# Altium schematic symbol library H2H.SchLib: 30 symbols
Pins are listed as number, name and electrical type; pins without a type are passive.

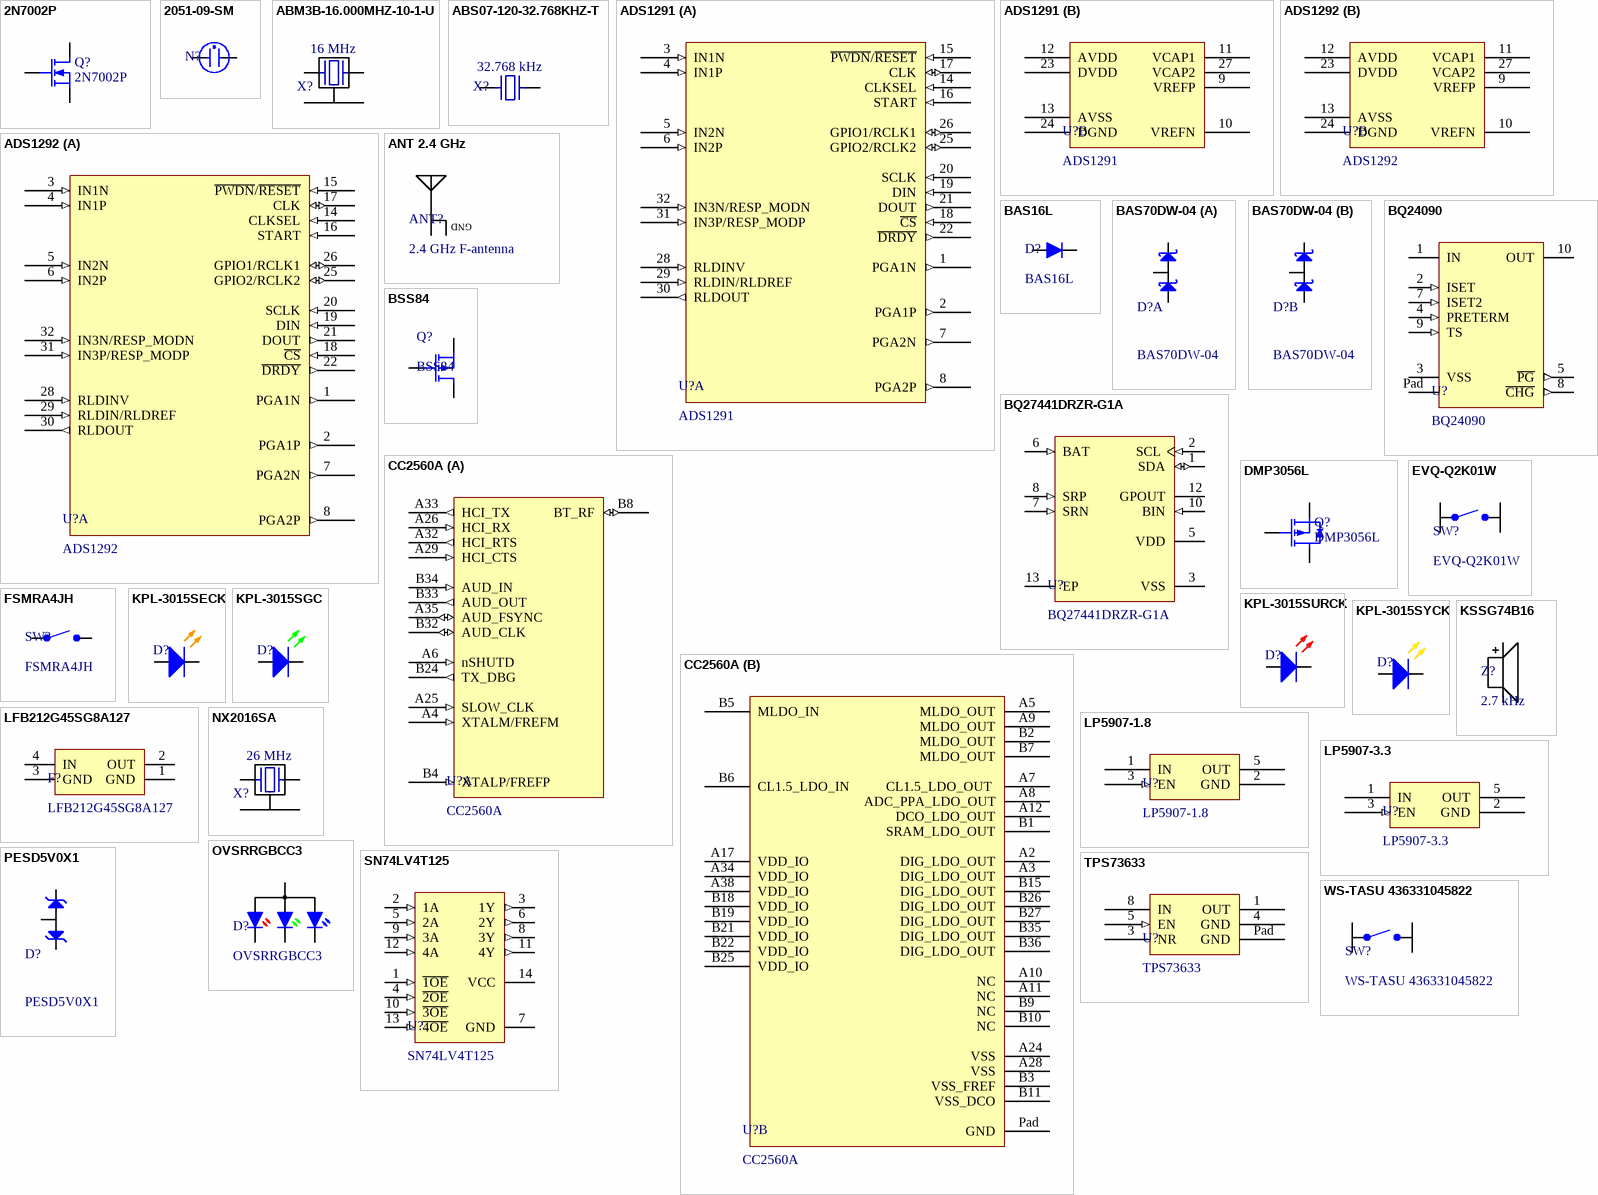
[diagram p0: symbols 2N7002P to WS-TASU 436331045822]

## 2N7002P
designator Q?
Transistor - MOSFET, N-Channel, 60V, 300mA; Supplier 1: Digi-Key; Supplier Part Number 1: 568-5818-1-ND
footprint 2N7002P (Transistor - MOSFET, N-Channel, 60V, 300mA)
pins: 1 G, 2 S, 3 D

## 2051-09-SM
designator N?, comment GDT  (value not drawn)
TVS - Gas Discharge Tube; DC Sparkover: 90 V; Impulse Sparkover (1000V/us): <600 V; Glow Voltage: 70 V; Arc Voltage: 10 V; Glow-Arc Transition Current: <1 A; Impulse Sparkover (100V/us): <500 V; Supplier 1: Digi-Key; Supplier Part Number 1: 2051-09-SM-RPLFCT-ND
footprint 2051-09-SM (TVS - Gas Discharge Tube)
pins: 1, 2

## ABM3B-16.000MHZ-10-1-U
designator X?  Frequency: 16 MHz  (hidden comment: ABM3B-16.000MHZ-10-1-U)
Crystal - 16 MHz; Load Capacitance: 10 pF; ESR: 50 m; Supplier 1: Digi-Key; Supplier Part Number 1: 300-8206-1-ND
footprint ABM3B-16.000MHZ-10-1-U (Crystal 16 MHz)
pins: 1, 2, 3, 4

## ABS07-120-32.768KHZ-T
designator X?  Frequency: 32.768 kHz  (hidden comment: ABS07-120-32.768KHZ-T)
Crystal - 32.768 kHz; Load Capacitance: 6 pF; Supplier 1: Digi-Key; Supplier Part Number 1: 535-11937-1-ND
footprint ABS07-120-32.768KHZ-T (DFN, 2-Leads, Body 1,50x3,20mm, Pitch 2,45mm, IPC Medium Density)
pins: 1, 2

## ADS1291
designator U?
IC - Analog Front End - Medical; Supplier 1: Digi-Key; Supplier Part Number 1: 296-36547-5-ND
footprint ADS129x (TSQFP, 32-Leads, Body 5,00x5,00mm, Pitch 0,50mm, IPC Medium Density)
part A pins: 1 PGA1N (out), 2 PGA1P (out), 3 IN1N (in), 4 IN1P (in), 5 IN2N (in), 6 IN2P (in), 7 PGA2N (out), 8 PGA2P (out), 14 CLKSEL (in), 15 ~{PWDN}/~{RESET} (in), 16 START (in), 17 CLK (io), 18 ~{CS} (in), 19 DIN (in), 20 SCLK (in), 21 DOUT (out), 22 ~{DRDY} (out), 25 GPIO2/RCLK2 (io), 26 GPIO1/RCLK1 (io), 28 RLDINV (in), 29 RLDIN/RLDREF (in), 30 RLDOUT (out), 31 IN3P/RESP_MODP (in), 32 IN3N/RESP_MODN (in)
part B pins: 9 VREFP, 10 VREFN, 11 VCAP1, 12 AVDD (power), 13 AVSS (power), 23 DVDD (power), 24 DGND (power), 27 VCAP2

## ADS1292
designator U?
IC - Analog Front End - Medical; Supplier 1: Digi-Key; Supplier Part Number 1: 296-30137-5-ND
footprint ADS129x (TSQFP, 32-Leads, Body 5,00x5,00mm, Pitch 0,50mm, IPC Medium Density)
part A pins: 1 PGA1N (out), 2 PGA1P (out), 3 IN1N (in), 4 IN1P (in), 5 IN2N (in), 6 IN2P (in), 7 PGA2N (out), 8 PGA2P (out), 14 CLKSEL (in), 15 ~{PWDN}/~{RESET} (in), 16 START (in), 17 CLK (io), 18 ~{CS} (in), 19 DIN (in), 20 SCLK (in), 21 DOUT (out), 22 ~{DRDY} (out), 25 GPIO2/RCLK2 (io), 26 GPIO1/RCLK1 (io), 28 RLDINV (in), 29 RLDIN/RLDREF (in), 30 RLDOUT (out), 31 IN3P/RESP_MODP (in), 32 IN3N/RESP_MODN (in)
part B pins: 9 VREFP, 10 VREFN, 11 VCAP1, 12 AVDD (power), 13 AVSS (power), 23 DVDD (power), 24 DGND (power), 27 VCAP2

## ANT 2.4 GHz
designator ANT?, comment 2.4 GHz F-antenna  (net tie, no BOM)
Antenna - Inverted F 2.4 GHz
footprint Antenna Inverted F 2.4 GHz (Antenna - Inverted F 2.4 GHz)
pins: 1 IN, 2 GND

## BAS16L
designator D?
Diode - Switching diode, 1 V, 200 mA; Supplier 1: Digi-Key; Supplier Part Number 1: BAS16LT1GOSCT-ND
footprint BAS16L (Diode - Switching diode, 1 V, 200 mA)
pins: 1 A, 3 K

## BAS70DW-04
designator D?
TVS - Dual Schottky Rail-to-rail Protection; Supplier 1: Digi-Key; Supplier Part Number 1: BAS70DW-04FDICT-ND
footprint BAS70DW-04 (SOT23, 6-Leads, Body 2,00x2,10mm, Pitch 0,65mm, IPC Medium Density)
part A pins: 1 A1, 2 K1, 6 AK1
part B pins: 3 AK2, 4 A2, 5 K2

## BQ24090
designator U?
IC - Battery Charger, Single Cell Li-Ion/LiPo, 1A; Supplier 1: Digi-Key; Supplier Part Number 1: 296-38875-1-ND
footprint BQ24090 (TSSOP, 10-Leads, Body 3,00x3,00mm, Pitch 0,50mm, Thermal Pad 1,88x1,57mm, IPC Medium Density)
pins: 1 IN (power), 2 ISET (in), 3 VSS (power), 4 PRETERM (in), 5 ~{PG} (out), 7 ISET2 (in), 8 ~{CHG} (out), 9 TS (in), 10 OUT (power), Pad Thermal

## BQ27441DRZR-G1A
designator U?
IC - Fuel Gauge, System-Side Impedance Track; PartNumber: BQ27410DRZR-G1A; Manufacturer: Texas Instruments; Eco-Plan: Green (RoHS & no Sb/Br); Lead Acid: N; Li-Ion: Y; SubFamily: Battery Fuel Gauge; DatasheetVersion: SLUSAF4; PackageVersion: revB, Apr-2006; PackageReference: DRZ12-1950X2450TP; PackageDescription: 12-Pin Plastic Small Outline No-Lead, 4 x 2.5 x 1 mm Body, 0.4 mm Pitch, Exposed Pad, Pb-Free; Li-Polymer: Y; NiCd: N; NiMH: N; Over Voltage Protection: N; Mounting Technology: Surface Mount; ComponentLink1Description: Datasheet; ComponentLink1URL: http://www.ti.com/general/docs/lit/getliterature.tsp?genericPartNumber=BQ27410-G1&fileType=pdf; Supplier 1: Digi-Key; Supplier Part Number 1: 296-39941-1-ND
footprint BQ27441DRZx-G1A (SON, 12-Leads, Body 4x2.5mm, Pitch 0.4mm, Thermal Pad 1.95x2.45mm, TI Recommended)
pins: 1 SDA (io) "Slave I2C serial communications data line for communication with system (Master). Open-drain I/O. Use with 10kohm pull-up resistor (typical).", 2 SCL (in) "Slave I2C serial communications clock input line for communication with system (Master). Use with 10kohm pull-up resistor (typical).", 3 VSS (power) "Device ground", 5 VDD (power) "Processor power input. Decouple with minimum 0.1µF ceramic capacitor.", 6 BAT (in) "Cell-voltage measurement input. ADC input. Recommend 4.8V maximum for conversion accuracy.", 7 SRN (in) "Analog input pin connected to the internal coulomb counter where SRN is nearest the Vss connection.Connect to 5-mohm to 20-mohm sense resistor.", 8 SRP (in) "Analog input pin connected to the internal coulomb counter where SRP is nearest the PACK- connection.Connect to 5-mohm to 20-mohm sense resistor.", 10 BIN (in) "Battery-insertion detection input. A logic high to low transition is detected as a battery insertion event.", 12 GPOUT (oc) "General Purpose open-drain output. May be configured as Battery Low indicator or perform SOC interrupt (SOC_INT) function.", 13 EP "Exposed thermal pad"

## BSS84
designator Q?
Transistor - MOSFET, P-Channel, 50V, 130mA; Supplier 1: Digi-Key; Supplier Part Number 1: BSS84CT-ND
footprint BSS84 (Transistor - MOSFET, P-Channel, 50V, 130mA)
pins: 1 G, 2 S, 3 D

## CC2560A
designator U?
IC - Bluetooth 4.0 controller (BR/EDR); Supplier 1: Farnell; Supplier Part Number 1: 2334559
footprint CC256x (Double Row QFN, 76-Leads, Body 8,00x8,00mm, Pitch 0,60mm, Thermal Pad 3,40x3,40mm, IPC Low Density)
part A pins: A4 XTALM/FREFM (in), A6 nSHUTD (in), A25 SLOW_CLK (in), A26 HCI_RX (in), A29 HCI_CTS (in), A32 HCI_RTS (out), A33 HCI_TX (out), A35 AUD_FSYNC (io), B4 XTALP/FREFP (in), B8 BT_RF (io), B24 TX_DBG (out), B32 AUD_CLK (io), B33 AUD_OUT (out), B34 AUD_IN (in)
part B pins: A2 DIG_LDO_OUT (power), A3 DIG_LDO_OUT (power), A5 MLDO_OUT (power), A7 CL1.5_LDO_OUT  (power), A8 ADC_PPA_LDO_OUT (power), A9 MLDO_OUT (power), A10 NC, A11 NC, A12 DCO_LDO_OUT (power), A17 VDD_IO (power), A24 VSS (power), A28 VSS (power), A34 VDD_IO (power), A38 VDD_IO (power), B1 SRAM_LDO_OUT (power), B2 MLDO_OUT (power), B3 VSS_FREF (power), B5 MLDO_IN (power), B6 CL1.5_LDO_IN (power), B7 MLDO_OUT (power), B9 NC, B10 NC, B11 VSS_DCO (power), B15 DIG_LDO_OUT (power), B18 VDD_IO (power), B19 VDD_IO (power), B21 VDD_IO (power), B22 VDD_IO (power), B25 VDD_IO (power), B26 DIG_LDO_OUT (power), B27 DIG_LDO_OUT (power), B35 DIG_LDO_OUT (power), B36 DIG_LDO_OUT (power), Pad GND (power)

## DMP3056L
designator Q?
Transistor - MOSFET, P-Channel, 30V, 4.3A; RDSon @ VGS =-4.5V: 50 m; Supplier 1: Digi-Key; Supplier Part Number 1: DMP3056L-7DICT-ND
footprint DMP3056L (SOT23, 3-Leads, Body 2,92x2,50mm, Pitch 0,95mm, IPC Medium Density)
pins: 1 G, 2 S, 3 D

## EVQ-Q2K01W
designator SW?
Switch - Tactile, Off-Mom, SPST; Supplier 1: Digi-Key; Supplier Part Number 1: P12941SCT-ND
footprint EVQ-Q2K01W (Switch - Tactile, Off-Mom, SPST)
pins: 1 A1, 2 A2, 3 B2, 4 B1

## FSMRA4JH
designator SW?
Switch - Tactile, Off-Mom, SPST, Right Angle; Supplier 1: Digi-Key; Supplier Part Number 1: 450-1658-ND
footprint FSMRA4JH (Switch - Tactile, Off-Mom, Right Angle)
pins: 1, 2

## KPL-3015SECK
designator D?  (value not drawn)
LED - Orange, 1206 (3015 metric); Supplier 1: Farnell; Supplier Part Number 1: 2426227
footprint KPL-3015 (LED - 1206 (3015 metric))
pins: 1 A, 2 K

## KPL-3015SGC
designator D?  (value not drawn)
LED - Green, 1206 (3015 metric); Supplier 1: Farnell; Supplier Part Number 1: 2426228
footprint KPL-3015 (LED - 1206 (3015 metric))
pins: 1 A, 2 K

## KPL-3015SURCK
designator D?  (value not drawn)
LED - Red, 1206 (3015 metric); Supplier 1: Farnell; Supplier Part Number 1: 2426229
footprint KPL-3015 (LED - 1206 (3015 metric))
pins: 1 A, 2 K

## KPL-3015SYCK
designator D?  (value not drawn)
LED - Yellow, 1206 (3015 metric); Supplier 1: Farnell; Supplier Part Number 1: 2426230
footprint KPL-3015 (LED - 1206 (3015 metric))
pins: 1 A, 2 K

## KSSG74B16
designator Z?, comment 2.7 kHz
Transductor - Buzzer 2.7 kHz; Supplier 1: Farnell; Supplier Part Number 1: 2215090; Resonant frequency: 2.7 kHz
footprint KSSG74B16 (Transductor - Buzzer 2.7 kHz)
pins: 1 +, 2 -

## LFB212G45SG8A127
designator F?
Filter - RF 2.4 GHz; Supplier 1: Digi-Key; Supplier Part Number 1: 490-5021-1-ND
footprint LFB212G45SG8A127 (Filter - RF 2.4 GHz)
pins: 1 GND (power), 2 OUT, 3 GND (power), 4 IN (power)

## LP5907-1.8
designator U?
Voltage Regulator - Linear; Supplier 1: Digi-Key; Supplier Part Number 1: 296-41463-1-ND
footprint LP5907 (SOT23, 5-Leads, Body 2,90x2,80mm, Pitch 0,95mm, IPC Medium Density)
pins: 1 IN (power), 2 GND (power), 3 EN (in), 5 OUT (power)

## LP5907-3.3
designator U?
Voltage Regulator - Linear; Supplier 1: Digi-Key; Supplier Part Number 1: 296-38557-1-ND
footprint LP5907 (SOT23, 5-Leads, Body 2,90x2,80mm, Pitch 0,95mm, IPC Medium Density)
pins: 1 IN (power), 2 GND (power), 3 EN (in), 5 OUT (power)

## NX2016SA
designator X?  Frequency: 26 MHz  (hidden comment: NX2016SA)
Crystal - 26 MHz; Supplier 1: Digi-Key; Supplier Part Number 1: 644-1220-1-ND
footprint NX2016SA (Crystal - 26 MHz)
pins: 1, 2, 3, 4

## OVSRRGBCC3
designator D?
LED - RGB, Top/Side-emmiting; Supplier 1: Digi-Key; Supplier Part Number 1: 365-1981-1-ND
footprint OVSRRGBCC3/SIDE (LED - RGB, Side-emmiting)
pins: 1 K_R, 2 K_G, 3 K_B, 4 A

## PESD5V0X1
designator D?
TVS - Bidirectional Zener Diode; Capacitance: 1 pF; Supplier 1: Digi-Key; Supplier Part Number 1: 568-4676-1-ND
footprint PESD5V0X1BT (SOT23, 3-Leads, Body 2,90x2,30mm, Pitch 0,95mm, IPC Medium Density)
pins: 1 K1, 2 K2, 3 A

## SN74LV4T125
designator U?
IC - Voltage Level Translator; Supplier 1: Digi-Key; Supplier Part Number 1: 296-40546-1-ND
footprint SN74LV4T125 (QFN, 14-Leads, Body 3,50x3,50mm, Pitch 0,50mm/1,50mm, Thermal Pad 2,05x2,05mm, IPC Medium Density)
pins: 1 ~{1OE} (in), 2 1A (in), 3 1Y (out), 4 ~{2OE} (in), 5 2A (in), 6 2Y (out), 7 GND (power), 8 3Y (out), 9 3A (in), 10 ~{3OE} (in), 11 4Y (out), 12 4A (in), 13 ~{4OE} (in), 14 VCC (power)

## TPS73633
designator U?
Voltage Regulator - Linear; Supplier 1: Digi-Key; Supplier Part Number 1: 296-17884-1-ND
footprint TPS73633 (PSON, 8-Leads, Body 3,00x3,00mm, Pitch 0,65mm, Thermal Pad 1,75x1,50mm, IPC Medium Density)
pins: 1 OUT (power), 3 NR, 4 GND (power), 5 EN (in), 8 IN (power), Pad GND (power)

## WS-TASU 436331045822
designator SW?
Switch - Tactile, Off-Mom, SPST, Side-Actuated; Supplier 1: Digi-Key; Supplier Part Number 1: 732-7059-1-ND
footprint WS-TASU 436331045822 (Switch - Tactile, Off-Mom, SPST, Side-Actuated)
pins: 1, 2, 3, 4